# Altium footprint library MPPT_PCB_Library.PcbLib: 25 footprints (part 2 of 2)
Each footprint in its own frame and in the unit in brackets; x right, y up, seen from the top. Pads: shape width x height; smd on the part's side, far side on the other; paste and mask are expansions set on the pad; w line width, h text height; cw(c..) or ccw(c..) is an arc to the next point about the centre after c.
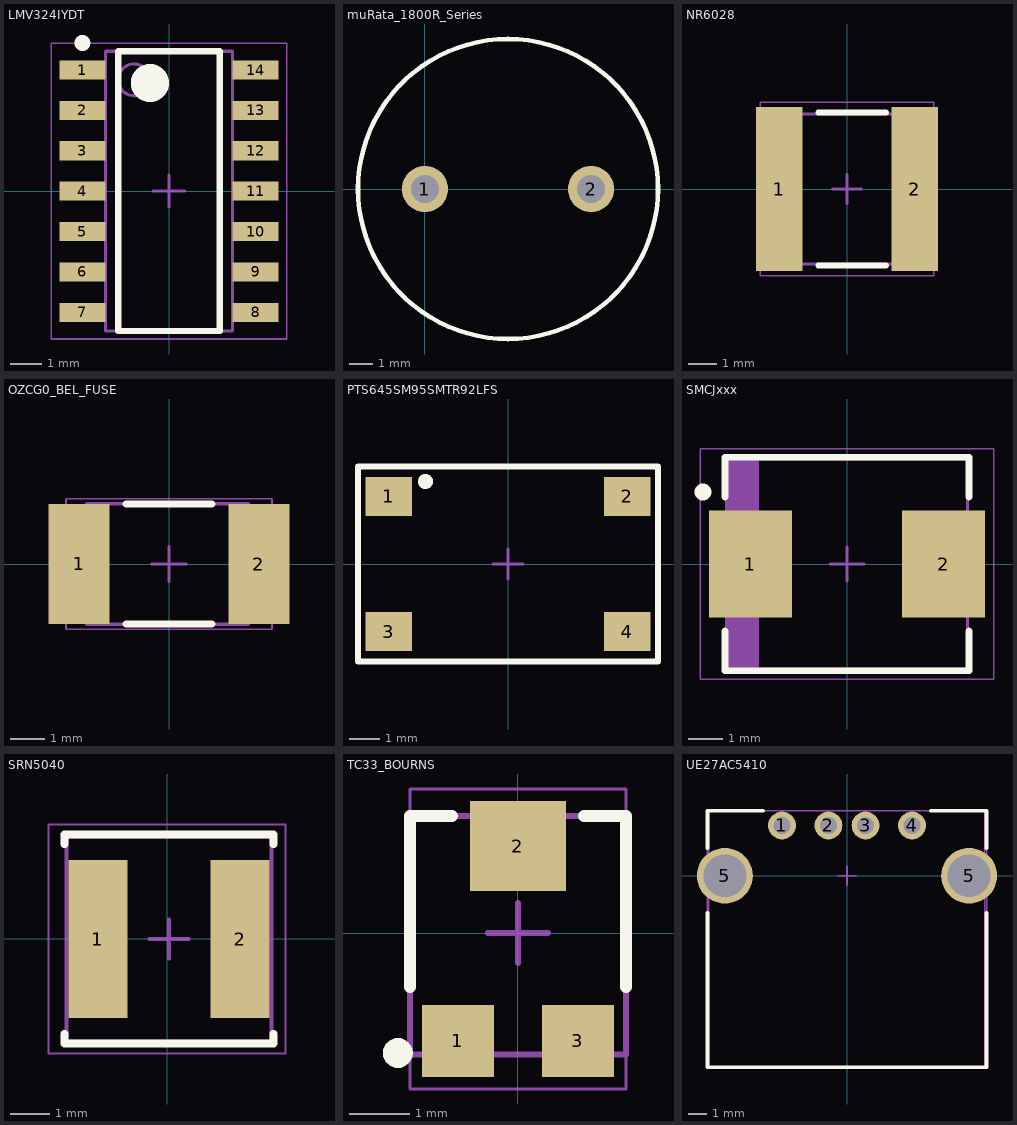
[diagram p1: the footprints below, top view; thin cyan lines are the x and y axes]

## LMV324IYDT [mm]
height 1.75
pads (14):
  rect 1.45x0.6 smd: 1(-2.725,3.81) 2(-2.725,2.54) 3(-2.725,1.27) 4(-2.725,0) 5(-2.725,-1.27) 6(-2.725,-2.54) 7(-2.725,-3.81) 8(2.725,-3.81) 9(2.725,-2.54) 10(2.725,-1.27) 11(2.725,0) 12(2.725,1.27) 13(2.725,2.54) 14(2.725,3.81)
Top Overlay:
  circle w0.25: c-2.725,4.66 r0.125
  circle w0.6: c-0.6,3.4 r0.3
  lines w0.2: -1.6,-4.4 -1.6,4.4 1.6,4.4 1.6,-4.4 -1.6,-4.4
Mechanical 13:
  circle w0.1: c-1.1,3.5 r0.5
  lines w0.1: -2,-4.4 -2,4.4 2,4.4 2,-4.4 -2,-4.4
Mechanical 15:
  lines w0.05: -3.7,-4.65 -3.7,4.65 3.7,4.65 3.7,-4.65 -3.7,-4.65
  lines w0.1: -0.5,0 0.5,0 ; 0,-0.5 0,0.5
3D body "LMV324IYDT.step": height 1.75, standoff 0, extent -3,-4.4 3,4.4

## muRata_1800R_Series [mm] "Murata Radial TH inductor"
height 13
pads (2):
  round 2 hole 1.2: 1(0,0) 2(7.2,0)
Top Overlay:
  circle w0.2: c3.6,0 r6.5
3D body: height 13, standoff 0, extent -3.241,-6.801 10.459,6.893

## NR6028 [mm] "Taiyo Yuden SMD Inductor"
height 4
pads (2):
  rect 1.6x5.7 smd: 1(-2.35,0) 2(2.35,0)
Top Overlay:
  lines w0.2: -1,-2.65 1.35,-2.65 ; -1,2.65 1.35,2.65
Mechanical 13:
  lines w0.1: -2.55,-2.6 -2.55,2.6 2.65,2.6 2.65,-2.6 -2.55,-2.6
Mechanical 15:
  lines w0.05: -3,-3 -3,3 3,3 3,-3 -3,-3
  lines w0.1: -0.5,0 0.5,0 ; 0,-0.5 0,0.5
3D body "SRN5040 series.stp": height 3.5, standoff 0.06, extent -2.451,-2.5 2.551,2.52

## OZCG0_BEL_FUSE [mm] "Bel Fuse PPTC"
height 1.55
pads (2):
  rect 1.78x3.5 smd: 1(-2.615,0) 2(2.615,0)
Top Overlay:
  lines w0.2: -1.25,-1.75 1.25,-1.75 ; -1.25,1.75 1.25,1.75
Mechanical 13:
  lines w0.1: -2.4,-1.75 2.3,-1.75 2.3,1.75 -2.4,1.75 -2.4,-1.75
Mechanical 15:
  lines w0.05: -3,-1.9 3,-1.9 3,1.9 -3,1.9 -3,-1.9
  lines w0.1: -0.5,0 0.5,0 ; 0,-0.5 0,0.5
3D body: height 1.55, standoff 0, extent -2.35,-1.7 2.35,1.7

## PTS645SM95SMTR92LFS [mm] "Pushbutton 9.5mm"
height 9.5
pads (4):
  rect 1.55x1.3 smd: 1(-3.975,2.25) 2(3.975,2.25) 3(-3.975,-2.25) 4(3.975,-2.25)
Top Overlay:
  circle w0.25: c-2.75,2.75 r0.125
  lines w0.2: -5,-3.25 5,-3.25 5,3.25 -5,3.25 -5,-3.25
Mechanical 13:
  circle w0.1: c-3.975,2.25 r0.5
  lines w0.1: -5,-3.25 5,-3.25 5,3.25 -5,3.25 -5,-3.25
Mechanical 15:
  lines w0.05: -5,-3.25 5,-3.25 5,3.25 -5,3.25 -5,-3.25
  lines w0.1: -0.5,0 0.5,0 ; 0,-0.5 0,0.5
3D body "PTS645SM95SMTR92LFS.stp": height 9.5, standoff 0, extent -4.5,-3 4.5,3

## SMCJxxx [mm] "DO-214AB (SMC J-Bend)"
height 2.62
pads (2):
  rect 2.45x3.15 smd: 1(-2.85,0) 2(2.85,0)
Top Overlay:
  circle w0.25: c-4.25,2.125 r0.125
  lines w0.2: -3.6,-1.975 -3.6,-3.15 3.6,-3.15 3.6,-1.975 ; -3.6,1.975 -3.6,3.15 3.6,3.15 3.6,1.975
Mechanical 13:
  rectangle: -3.555,-3.11 -2.599,3.11
  lines w0.1: -3.555,-3.11 3.555,-3.11 3.555,3.11 -3.555,3.11 -3.555,-3.11
Mechanical 15:
  lines w0.05: -4.325,-3.4 4.325,-3.4 4.325,3.4 -4.325,3.4 -4.325,-3.4
  lines w0.1: -0.5,0 0.5,0 ; 0,-0.5 0,0.5
3D body "SMCJxxx.step": height 2.62, standoff 0, extent -3.775,-3.11 3.775,3.11

## SRN5040 [mm] "Bourns Semi-Sheilded Inductor"
height 4
pads (2):
  rect 1.5x4 smd: 1(-1.75,0) 2(1.85,0)
Top Overlay:
  lines w0.2: -2.6,-2.4 -2.6,-2.65 2.7,-2.65 2.7,-2.4 ; -2.6,2.4 -2.6,2.65 2.7,2.65 2.7,2.4
Mechanical 13:
  lines w0.1: -2.55,-2.6 -2.55,2.6 2.65,2.6 2.65,-2.6 -2.55,-2.6
Mechanical 15:
  lines w0.05: -3,-2.9 -3,2.9 3,2.9 3,-2.9 -3,-2.9
  lines w0.1: -0.45,0 0.55,0 ; 0.05,-0.5 0.05,0.5
3D body "SRN5040 series.stp": height 3.5, standoff 0.06, extent -2.451,-2.5 2.551,2.52

## TC33_BOURNS [mm] "Bourns Trimpot"
height 1.2
pads (3):
  rect 1.2x1.2 smd: 1(-1,-1.8) 3(1,-1.8)
  rect 1.6x1.5 smd: 2(0,1.45)
Top Overlay:
  circle w0.25: c-2,-2 r0.125
  lines w0.2: -1.8,-0.9 -1.8,1.95 -1.1,1.95 ; 1.1,1.95 1.8,1.95 1.8,-0.9
Mechanical 13:
  lines w0.1: -1.8,-2.025 -1.8,1.95 1.8,1.95 1.8,-2.025 -1.8,-2.025
Mechanical 15:
  lines w0.05: -1.8,-2.6 -1.8,2.4 1.8,2.4 1.8,-2.6 -1.8,-2.6
  lines w0.1: -0.5,0 0.5,0 ; 0,-0.5 0,0.5
3D body "TC-33X-2.stp": height 1.13, standoff -0.02, extent -1.8,-2.013 1.8,1.95

## UE27AC5410 [mm] "USB Connector"
height 6.9
pads (6):
  round 1.5 hole 0.92: 1(-3.5,2.71) 2(-1,2.71) 3(1,2.71) 4(3.5,2.71)
  round 3 hole 2.3: 5(-6.57,0) 5(6.57,0)
Top Overlay:
  lines w0.2: -7.5,-2 -7.5,-10.3 7.4,-10.3 ; -7.5,1.5 -7.5,3.5 -4.5,3.5 ; 4.5,3.5 7.5,3.5 7.5,1.5 ; 7.5,-10.3 7.5,-2
Mechanical 13:
  lines w0.1: -7.5,-10.3 7.5,-10.3 7.5,3.5 -7.5,3.5 -7.5,-10.3
Mechanical 15:
  lines w0.05: -7.4,-10.3 7.4,-10.3 7.4,3.5 -7.4,3.5 -7.4,-10.3
  lines w0.1: -0.5,0 0.5,0 ; 0,-0.5 0,0.5
3D body "M-UE27-AC54-100-REVT1.STEP": height 7.6, standoff -3.15, extent -7.423,-10.3 7.424,3.5